# EAGLE library part SN74LVC2G02 (library ERIC)
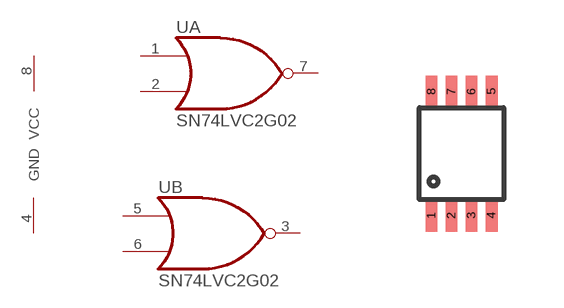
[diagram p4: symbol with the pads of DCU(S-PDSO-G8); footprint DCU(S-PDSO-G8)]

Designator prefix -; gates A=NOR B=NOR G$1=POWER_PINS

## SN74LVC2G02  [DCU(S-PDSO-G8)]
1  A:I0  in
2  A:I1  in
3  B:O  out
4  G$1:GND  pwr
5  B:I0  in
6  B:I1  in
7  A:O  out
8  G$1:VCC  pwr

## Footprint DCU(S-PDSO-G8) (pad centres in mm)
Texas Instruments DCU 8 pin package
smd 0.3 x 0.8: 1 -0.75,-1.55; 2 -0.25,-1.55; 3 0.25,-1.55; 4 0.75,-1.55; 5 0.75,1.55; 6 0.25,1.55; 7 -0.25,1.55; 8 -0.75,1.55